# Altium footprint library MCUs.PcbLib: 6 footprints
Each footprint in its own frame and in the unit in brackets; x right, y up, seen from the top. Pads: shape width x height; smd on the part's side, far side on the other; paste and mask are expansions set on the pad; w line width, h text height; cw(c..) or ccw(c..) is an arc to the next point about the centre after c.
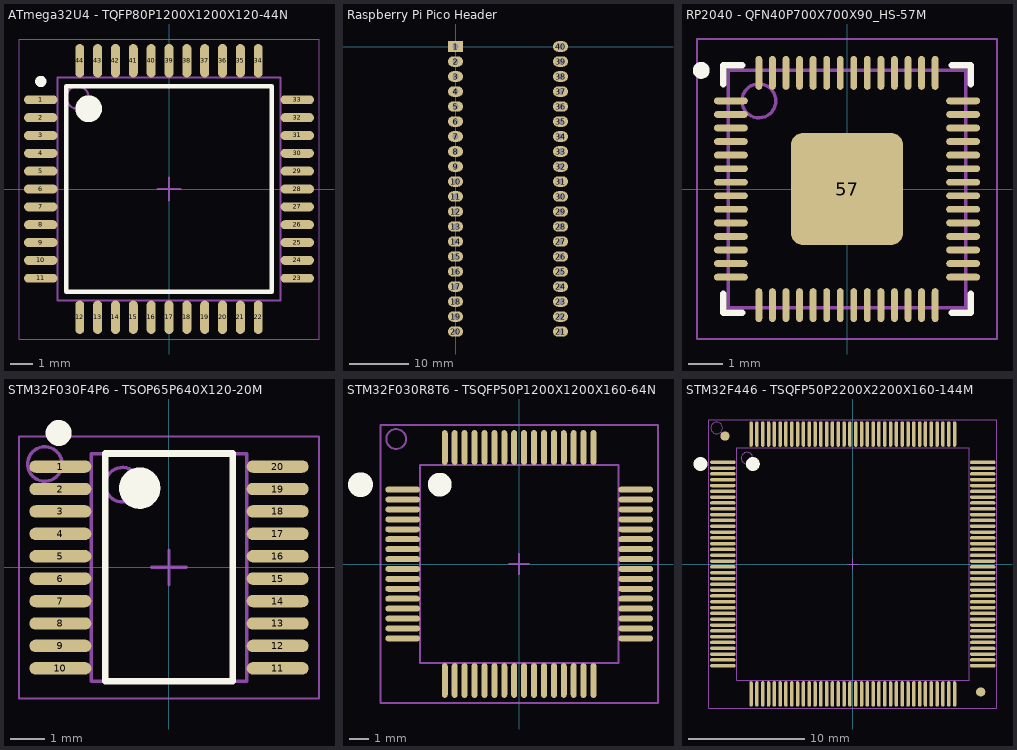
[diagram p0: the footprints below, top view; thin cyan lines are the x and y axes]

## ATmega32U4 - TQFP80P1200X1200X120-44N [mm] "TQFP, 44-Leads, Body 10.00x10.00mm, Pitch 0.80mm, IPC Medium Density"
height 1.2
pads (44):
  rrect100% 1.5x0.4 smd paste-0.06: 1(-5.75,4) 2(-5.75,3.2) 3(-5.75,2.4) 4(-5.75,1.6) 5(-5.75,0.8) 6(-5.75,0) 7(-5.75,-0.8) 8(-5.75,-1.6) 9(-5.75,-2.4) 10(-5.75,-3.2) 11(-5.75,-4) 23(5.75,-4) 24(5.75,-3.2) 25(5.75,-2.4) 26(5.75,-1.6) 27(5.75,-0.8) 28(5.75,0) 29(5.75,0.8) 30(5.75,1.6) 31(5.75,2.4) 32(5.75,3.2) 33(5.75,4)
  rrect100% 0.4x1.5 smd paste-0.06: 12(-4,-5.75) 13(-3.2,-5.75) 14(-2.4,-5.75) 15(-1.6,-5.75) 16(-0.8,-5.75) 17(0,-5.75) 18(0.8,-5.75) 19(1.6,-5.75) 20(2.4,-5.75) 21(3.2,-5.75) 22(4,-5.75) 34(4,5.75) 35(3.2,5.75) 36(2.4,5.75) 37(1.6,5.75) 38(0.8,5.75) 39(0,5.75) 40(-0.8,5.75) 41(-1.6,5.75) 42(-2.4,5.75) 43(-3.2,5.75) 44(-4,5.75)
Top Overlay:
  circle w0.25: c-5.75,4.825 r0.125
  circle w0.6: c-3.6,3.6 r0.3
  lines w0.2: -4.6,-4.6 -4.6,4.6 4.6,4.6 4.6,-4.6 -4.6,-4.6
Top Assembly:
  circle w0.1: c-4.1,4.1 r0.5
  lines w0.1: -5,-5 -5,5 5,5 5,-5 -5,-5
Mechanical 15:
  lines w0.05: -6.725,-6.725 -6.725,6.725 6.725,6.725 6.725,-6.725 -6.725,-6.725
  lines w0.1: -0.5,0 0.5,0 ; 0,-0.5 0,0.5
3D body: height 1.2, standoff 0.05, extent -5,-5 5,5

## Raspberry Pi Pico Header [mil]
pads (40):
  rect 100x70 hole 40 paste-3897.64: 1(0,0)
  oval 100x70 hole 40 paste-3897.64: 2(0,-100) 3(0,-200) 4(0,-300) 5(0,-400) 6(0,-500) 7(0,-600) 8(0,-700) 9(0,-800) 10(0,-900) 11(0,-1000) 12(0,-1100) 13(0,-1200) 14(0,-1300) 15(0,-1400)
  oval 100x70 hole 40: 16(0,-1500) 17(0,-1600) 18(0,-1700) 19(0,-1800) 20(0,-1900) 21(700,-1900) 22(700,-1800) 23(700,-1700) 24(700,-1600) 25(700,-1500) 26(700,-1400) 27(700,-1300) 28(700,-1200) 29(700,-1100) 30(700,-1000) 31(700,-900) 32(700,-800) 33(700,-700) 34(700,-600) 35(700,-500) 36(700,-400) 37(700,-300) 38(700,-200) 39(700,-100) 40(700,0)

## RP2040 - QFN40P700X700X90_HS-57M [mm] "QFN, 56-Leads, Body 7.00x7.00mm, Pitch 0.40mm, Thermal Pad 3.10x3.10mm, IPC Low Density"
height 0.9
pads (57):
  oval 1x0.2 smd paste-99 mask+0.05: 1(-3.425,2.6) 2(-3.425,2.2) 3(-3.425,1.8) 4(-3.425,1.4) 5(-3.425,1) 6(-3.425,0.6) 7(-3.425,0.2) 8(-3.425,-0.2) 9(-3.425,-0.6) 10(-3.425,-1) 11(-3.425,-1.4) 12(-3.425,-1.8) 13(-3.425,-2.2) 14(-3.425,-2.6) 29(3.425,-2.6) 30(3.425,-2.2) 31(3.425,-1.8) 32(3.425,-1.4) 33(3.425,-1) 34(3.425,-0.6) 35(3.425,-0.2) 36(3.425,0.2) 37(3.425,0.6) 38(3.425,1) 39(3.425,1.4) 40(3.425,1.8) 41(3.425,2.2) 42(3.425,2.6)
  oval 0.2x1 smd paste-99 mask+0.05: 15(-2.6,-3.425) 16(-2.2,-3.425) 17(-1.8,-3.425) 18(-1.4,-3.425) 19(-1,-3.425) 20(-0.6,-3.425) 21(-0.2,-3.425) 22(0.2,-3.425) 23(0.6,-3.425) 24(1,-3.425) 25(1.4,-3.425) 26(1.8,-3.425) 27(2.2,-3.425) 28(2.6,-3.425) 43(2.6,3.425) 44(2.2,3.425) 45(1.8,3.425) 46(1.4,3.425) 47(1,3.425) 48(0.6,3.425) 49(0.2,3.425) 50(-0.2,3.425) 51(-0.6,3.425) 52(-1,3.425) 53(-1.4,3.425) 54(-1.8,3.425) 55(-2.2,3.425) 56(-2.6,3.425)
  rrect20% 3.3x3.3 smd paste-99: 57(0,0)
Top Overlay:
  circle w0.25: c-4.3,3.5 r0.125
  lines w0.2: -3.65,-3.1 -3.65,-3.65 -3.1,-3.65 ; -3.65,3.1 -3.65,3.65 -3.1,3.65 ; 3.1,-3.65 3.65,-3.65 3.65,-3.1 ; 3.1,3.65 3.65,3.65 3.65,3.1
Top Paste:
  lines w0.2: -3.725,-2.6 -3.275,-2.6 ; -3.725,-2.2 -3.275,-2.2 ; -3.725,-1.8 -3.275,-1.8 ; -3.725,-1.4 -3.275,-1.4 ; -3.725,-1 -3.275,-1 ; -3.725,-0.6 -3.275,-0.6 ; -3.725,-0.2 -3.275,-0.2 ; -3.725,0.2 -3.275,0.2 ; -3.725,0.6 -3.275,0.6 ; -3.725,1 -3.275,1 ; -3.725,1.4 -3.275,1.4 ; -3.725,1.8 -3.275,1.8 ; -3.725,2.2 -3.275,2.2 ; -3.725,2.6 -3.275,2.6 ; -2.6,-3.725 -2.6,-3.275 ; -2.6,3.275 -2.6,3.725 ; -2.2,-3.725 -2.2,-3.275 ; -2.2,3.275 -2.2,3.725 ; -1.8,-3.725 -1.8,-3.275 ; -1.8,3.275 -1.8,3.725 ; -1.4,-3.725 -1.4,-3.275 ; -1.4,3.275 -1.4,3.725 ; -1,-3.725 -1,-3.275 ; -1,3.275 -1,3.725 ; -0.6,-3.725 -0.6,-3.275 ; -0.6,3.275 -0.6,3.725 ; -0.2,-3.725 -0.2,-3.275 ; -0.2,3.275 -0.2,3.725 ; 0.2,-3.725 0.2,-3.275 ; 0.2,3.275 0.2,3.725 ; 0.6,-3.725 0.6,-3.275 ; 0.6,3.275 0.6,3.725 ; 1,-3.725 1,-3.275 ; 1,3.275 1,3.725 ; 1.4,-3.725 1.4,-3.275 ; 1.4,3.275 1.4,3.725 ; 1.8,-3.725 1.8,-3.275 ; 1.8,3.275 1.8,3.725 ; 2.2,-3.725 2.2,-3.275 ; 2.2,3.275 2.2,3.725 ; 2.6,-3.725 2.6,-3.275 ; 2.6,3.275 2.6,3.725 ; 3.275,2.6 3.725,2.6 ; 3.3,-2.6 3.75,-2.6 ; 3.3,-2.2 3.75,-2.2 ; 3.3,-1.8 3.75,-1.8 ; 3.3,-1.4 3.75,-1.4 ; 3.3,-1 3.75,-1 ; 3.3,-0.6 3.75,-0.6 ; 3.3,-0.2 3.75,-0.2 ; 3.3,0.2 3.75,0.2 ; 3.3,0.6 3.75,0.6 ; 3.3,1 3.75,1 ; 3.3,1.4 3.75,1.4 ; 3.3,1.8 3.75,1.8 ; 3.3,2.2 3.75,2.2
  lines w0.5: -1.1,-1.1 -1.1,-0.65 ; -1.1,0.65 -1.1,1.1 ; 0,-1.1 0,-0.65 ; 0,0.65 0,1.1 ; 1.1,-1.1 1.1,-0.65 ; 1.1,0.65 1.1,1.1
Top Assembly:
  circle w0.1: c-2.6,2.6 r0.5
  lines w0.1: -3.5,-3.5 -3.5,3.5 3.5,3.5 3.5,-3.5 -3.5,-3.5
Mechanical 15:
  lines w0.05: -4.425,-4.425 -4.425,4.425 4.425,4.425 4.425,-4.425 -4.425,-4.425
  lines w0.1: -0.5,0 0.5,0 ; 0,-0.5 0,0.5
3D body: height 0.9, standoff 0, extent -3.5,-3.5 3.5,3.5

## STM32F030F4P6 - TSOP65P640X120-20M [mm] "TSOP, 20-Leads, Body 6.50x4.40mm, Pitch 0.65mm, IPC Low Density"
height 1.2
pads (20):
  oval 1.8x0.36 smd paste-0.025 mask+0.08: 1(-3.15,2.925) 2(-3.15,2.275) 3(-3.15,1.625) 4(-3.15,0.975) 5(-3.15,0.325) 6(-3.15,-0.325) 7(-3.15,-0.975) 8(-3.15,-1.625) 9(-3.15,-2.275) 10(-3.15,-2.925) 11(3.15,-2.925) 12(3.15,-2.275) 13(3.15,-1.625) 14(3.15,-0.975) 15(3.15,-0.325) 16(3.15,0.325) 17(3.15,0.975) 18(3.15,1.625) 19(3.15,2.275) 20(3.15,2.925)
Top Overlay:
  circle w0.6: c-0.85,2.3 r0.3
  circle w0.5: c-3.2,3.9 r0.125
  lines w0.2: -1.85,-3.3 1.85,-3.3 1.85,3.3 -1.85,3.3 -1.85,-3.3
Mechanical 13:
  circle w0.1: c-1.35,2.4 r0.5
  lines w0.1: -2.25,-3.3 2.25,-3.3 2.25,3.3 -2.25,3.3 -2.25,-3.3
Mechanical 15:
  lines w0.05: -4.35,-3.8 4.35,-3.8 4.35,3.8 -4.35,3.8 -4.35,-3.8
  lines w0.1: -0.5,0 0.5,0 ; 0,-0.5 0,0.5
Assembly:
  circle w0.1: c-3.6,3 r0.5
  lines w0.05: -4.35,-3.8 -4.35,3.8 4.35,3.8 4.35,-3.8 -4.35,-3.8
  text ".Designator" at -2.4,-0.2 h1.1
3D body: height 1.2, standoff 0.05, extent -2.25,-3.3 2.25,3.3

## STM32F030R8T6 - TSQFP50P1200X1200X160-64N [mm] "TSQFP, 64-Leads, Body 12.2x12.2mm (max), Pitch 0.50mm, IPC Low Density (Modified)"
height 1.6
pads (64):
  oval 1.75x0.3 smd paste-99 mask+0.048: 1(-5.875,3.75) 2(-5.875,3.25) 3(-5.875,2.75) 4(-5.875,2.25) 5(-5.875,1.75) 6(-5.875,1.25) 7(-5.875,0.75) 8(-5.875,0.25) 9(-5.875,-0.25) 10(-5.875,-0.75) 11(-5.875,-1.25) 12(-5.875,-1.75) 13(-5.875,-2.25) 14(-5.875,-2.75) 15(-5.875,-3.25) 16(-5.875,-3.75) 33(5.875,-3.75) 34(5.875,-3.25) 35(5.875,-2.75) 36(5.875,-2.25) 37(5.875,-1.75) 38(5.875,-1.25) 39(5.875,-0.75) 40(5.875,-0.25) 41(5.875,0.25) 42(5.875,0.75) 43(5.875,1.25) 44(5.875,1.75) 45(5.875,2.25) 46(5.875,2.75) 47(5.875,3.25) 48(5.875,3.75)
  oval 0.3x1.75 smd paste-99 mask+0.048: 17(-3.75,-5.875) 18(-3.25,-5.875) 19(-2.75,-5.875) 20(-2.25,-5.875) 21(-1.75,-5.875) 22(-1.25,-5.875) 23(-0.75,-5.875) 24(-0.25,-5.875) 25(0.25,-5.875) 26(0.75,-5.875) 27(1.25,-5.875) 28(1.75,-5.875) 29(2.25,-5.875) 30(2.75,-5.875) 31(3.25,-5.875) 32(3.75,-5.875) 49(3.75,5.875) 50(3.25,5.875) 51(2.75,5.875) 52(2.25,5.875) 53(1.75,5.875) 54(1.25,5.875) 55(0.75,5.875) 56(0.25,5.875) 57(-0.25,5.875) 58(-0.75,5.875) 59(-1.25,5.875) 60(-1.75,5.875) 61(-2.25,5.875) 62(-2.75,5.875) 63(-3.25,5.875) 64(-3.75,5.875)
Top Overlay:
  circle w1: c-8,4 r0.125
  circle w0.6: c-4,4 r0.3
Top Paste:
  drawing of 320 lines, arcs and shapes, not listed
Mechanical 13:
  circle w0.1: c-4.05,4.05 r0.5
  lines w0.1: -5,-5 -5,5 5,5 5,-5 -5,-5
Mechanical 15:
  lines w0.1: -0.5,0 0.5,0 ; 0,-0.5 0,0.5 ; -7,-7 -7,7 7,7 7,-7 -7,-7
Assembly:
  circle w0.1: c-6.2,6.3 r0.5
  lines w0.1: -7,-7 7,-7 7,7 -7,7 -7,-7
  text ".Designator" at -4.2,-0.4 h2
3D body: height 1.6, standoff 0.05, extent -5,-5 5,5

## STM32F446 - TSQFP50P2200X2200X160-144M [mm] "TSQFP, 144-Leads, Body 20.00x20.00mm, Pitch 0.50mm, IPC Low Density"
height 1.6
pads (146):
  oval 2.2x0.3 smd paste-0.03 mask+0.048: 1(-11.175,8.75) 2(-11.175,8.25) 3(-11.175,7.75) 4(-11.175,7.25) 5(-11.175,6.75) 6(-11.175,6.25) 7(-11.175,5.75) 8(-11.175,5.25) 9(-11.175,4.75) 10(-11.175,4.25) 11(-11.175,3.75) 12(-11.175,3.25) 13(-11.175,2.75) 14(-11.175,2.25) 15(-11.175,1.75) 16(-11.175,1.25) 17(-11.175,0.75) 18(-11.175,0.25) 19(-11.175,-0.25) 20(-11.175,-0.75) 21(-11.175,-1.25) 22(-11.175,-1.75) 23(-11.175,-2.25) 24(-11.175,-2.75) 25(-11.175,-3.25) 26(-11.175,-3.75) 27(-11.175,-4.25) 28(-11.175,-4.75) 29(-11.175,-5.25) 30(-11.175,-5.75) 31(-11.175,-6.25) 32(-11.175,-6.75) 33(-11.175,-7.25) 34(-11.175,-7.75) 35(-11.175,-8.25) 36(-11.175,-8.75) 73(11.175,-8.75) 74(11.175,-8.25) 75(11.175,-7.75) 76(11.175,-7.25) 77(11.175,-6.75) 78(11.175,-6.25) 79(11.175,-5.75) 80(11.175,-5.25) 81(11.175,-4.75) 82(11.175,-4.25) 83(11.175,-3.75) 84(11.175,-3.25) 85(11.175,-2.75) 86(11.175,-2.25) 87(11.175,-1.75) 88(11.175,-1.25) 89(11.175,-0.75) 90(11.175,-0.25) 91(11.175,0.25) 92(11.175,0.75) 93(11.175,1.25) 94(11.175,1.75) 95(11.175,2.25) 96(11.175,2.75) 97(11.175,3.25) 98(11.175,3.75) 99(11.175,4.25) 100(11.175,4.75) 101(11.175,5.25) 102(11.175,5.75) 103(11.175,6.25) 104(11.175,6.75) 105(11.175,7.25) 106(11.175,7.75) 107(11.175,8.25) 108(11.175,8.75)
  oval 0.3x2.2 smd paste-0.03 mask+0.048: 37(-8.75,-11.175) 38(-8.25,-11.175) 39(-7.75,-11.175) 40(-7.25,-11.175) 41(-6.75,-11.175) 42(-6.25,-11.175) 43(-5.75,-11.175) 44(-5.25,-11.175) 45(-4.75,-11.175) 46(-4.25,-11.175) 47(-3.75,-11.175) 48(-3.25,-11.175) 49(-2.75,-11.175) 50(-2.25,-11.175) 51(-1.75,-11.175) 52(-1.25,-11.175) 53(-0.75,-11.175) 54(-0.25,-11.175) 55(0.25,-11.175) 56(0.75,-11.175) 57(1.25,-11.175) 58(1.75,-11.175) 59(2.25,-11.175) 60(2.75,-11.175) 61(3.25,-11.175) 62(3.75,-11.175) 63(4.25,-11.175) 64(4.75,-11.175) 65(5.25,-11.175) 66(5.75,-11.175) 67(6.25,-11.175) 68(6.75,-11.175) 69(7.25,-11.175) 70(7.75,-11.175) 71(8.25,-11.175) 72(8.75,-11.175) 109(8.75,11.175) 110(8.25,11.175) 111(7.75,11.175) 112(7.25,11.175) 113(6.75,11.175) 114(6.25,11.175) 115(5.75,11.175) 116(5.25,11.175) 117(4.75,11.175) 118(4.25,11.175) 119(3.75,11.175) 120(3.25,11.175) 121(2.75,11.175) 122(2.25,11.175) 123(1.75,11.175) 124(1.25,11.175) 125(0.75,11.175) 126(0.25,11.175) 127(-0.25,11.175) 128(-0.75,11.175) 129(-1.25,11.175) 130(-1.75,11.175) 131(-2.25,11.175) 132(-2.75,11.175) 133(-3.25,11.175) 134(-3.75,11.175) 135(-4.25,11.175) 136(-4.75,11.175) 137(-5.25,11.175) 138(-5.75,11.175) 139(-6.25,11.175) 140(-6.75,11.175) 141(-7.25,11.175) 142(-7.75,11.175) 143(-8.25,11.175) 144(-8.75,11.175)
  round 0.8 smd paste-1.524 mask+0.5: ""(-11,11) ""(11,-11)
Top Overlay:
  circle w0.6: c-13.1,8.6 r0.3
  circle w0.6: c-8.6,8.6 r0.3
Mechanical 13:
  circle w0.1: c-9.1,9.1 r0.5
  lines w0.1: -10,-10 -10,10 10,10 10,-10 -10,-10
Mechanical 15:
  lines w0.05: -12.4,-12.4 -12.4,12.4 12.4,12.4 12.4,-12.4 -12.4,-12.4
  lines w0.1: -0.5,0 0.5,0 ; 0,-0.5 0,0.5
Assembly:
  circle w0.1: c-11.7,11.7 r0.5
  lines w0.05: -12.4,-12.4 12.4,-12.4 12.4,12.4 -12.4,12.4 -12.4,-12.4
  text ".Designator" at -6.5,-0.5 h3
3D body: height 1.6, standoff 0.05, extent -10,-10 10,10